# Altium schematic symbol library SN74AUP1G00DCKR.SchLib: 1 symbol
Pins are listed as number, name and electrical type; pins without a type are passive.

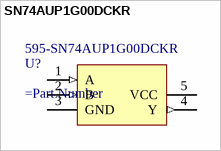
[diagram p0: symbol SN74AUP1G00DCKR]

## SN74AUP1G00DCKR
designator U?  Supplier Part Number 1: 595-SN74AUP1G00DCKR
=Description; Supplier 1: Mouser
pins: 1 A (in), 2 B (in), 3 GND (power), 4 Y (out), 5 VCC (power)